# EAGLE library part LM51571QRTERQ1 (library LM51571QRTERQ1)
4-A, 50-V, 2.2-MHz wide VIN boost, flyback, & SEPIC converter with dual random spread spectrum Source: Datasheet <https://www.ti.com/lit/ds/symlink/lm51571-q1.pdf?ts=1617256844020&ref_url=https%3A%2F%2Fwww.ti.com%2Fstore%2Fti%2Fen%2Fp%2Fproduct%2F%3Fp%3DLM51571QRTERQ1>
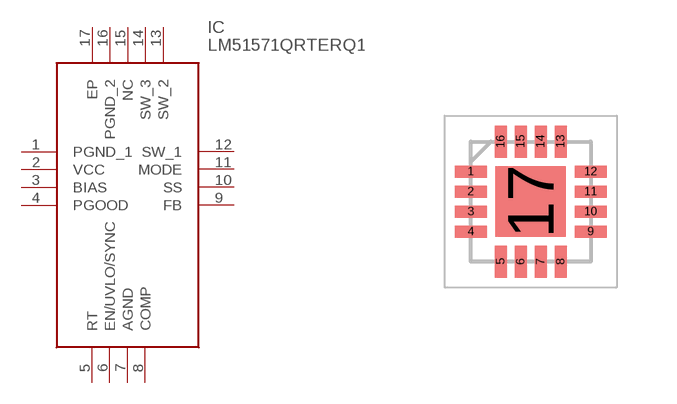
[diagram p0: symbol with the pads of QFN50P300X300X80-17N; footprint QFN50P300X300X80-17N]

Designator prefix IC

## LM51571QRTERQ1 (Description: 4-A, 50-V, 2.2-MHz wide VIN boost, flyback, & SEPIC converter with dual random spread spectrum; Height: 0.8mm; Manufacturer_Name: Texas Instruments; Manufacturer_Part_Number: LM51571QRTERQ1; Mouser_Part_Number: 595-LM51571QRTERQ1; Mouser_Price-Stock: https://www.mouser.co.uk/ProductDetail/Texas-Instruments/LM51571QRTERQ1?qs=DRkmTr78QATLeGZjuFYyEQ%3D%3D)  [QFN50P300X300X80-17N]
1  PGND_1
2  VCC
3  BIAS
4  PGOOD
5  RT
6  EN/UVLO/SYNC
7  AGND
8  COMP
9  FB
10  SS
11  MODE
12  SW_1
13  SW_2
14  SW_3
15  NC  nc
16  PGND_2
17  EP

## Footprint QFN50P300X300X80-17N (pad centres in mm)
RTE (S-PWQFN-N16)
smd 0.8 x 0.3: 1 -1.5,0.75; 2 -1.5,0.25; 3 -1.5,-0.25; 4 -1.5,-0.75; 9 1.5,-0.75; 10 1.5,-0.25; 11 1.5,0.25; 12 1.5,0.75
smd 0.3 x 0.8: 5 -0.75,-1.5; 6 -0.25,-1.5; 7 0.25,-1.5; 8 0.75,-1.5; 13 0.75,1.5; 14 0.25,1.5; 15 -0.25,1.5; 16 -0.75,1.5
smd 1.76 x 1.76: 17 0,0